# EAGLE library part MLX90316EGO-BCG-000-SP (library MLX90316EGO-BCG-000-SP)
Board Mount Motion & Position Sensors Triaxis Programmable Rotary Position Sensor feat. Ana-PWM Source: Datasheet <https://www.melexis.com/-/media/files/documents/datasheets/mlx90316-datasheet-melexis.pdf>
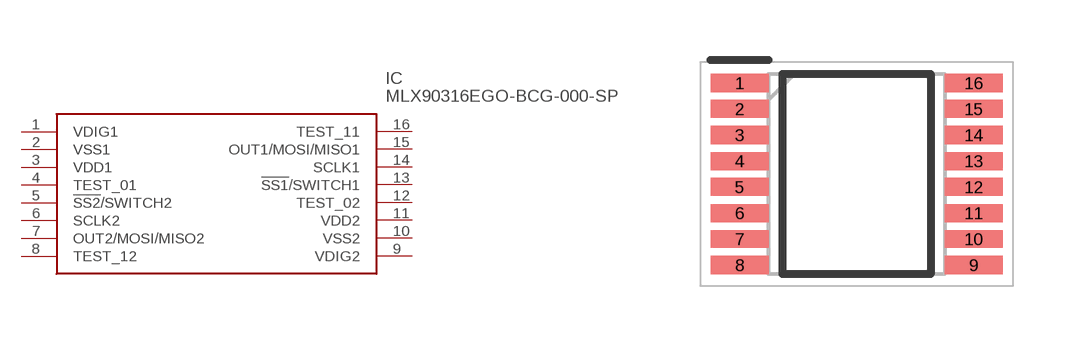
[diagram p0: symbol with the pads of SOP65P640X110-16N; footprint SOP65P640X110-16N]

Designator prefix IC

## MLX90316EGO-BCG-000-SP (Description: Board Mount Motion & Position Sensors Triaxis Programmable Rotary Position Sensor feat. Ana-PWM; Height: 1.1mm; Manufacturer_Name: Melexis; Manufacturer_Part_Number: MLX90316EGO-BCG-000-SP; Mouser_Part_Number: 482-90316EGOBCG000SP; Mouser_Price-Stock: https://www.mouser.co.uk/ProductDetail/Melexis/MLX90316EGO-BCG-000-SP?qs=KuGPmAKtFKWg%2F1YUwHrLHw%3D%3D)  [SOP65P640X110-16N]
1  VDIG1
2  VSS1
3  VDD1
4  TEST_01
5  !SS2!/SWITCH2
6  SCLK2
7  OUT2/MOSI/MISO2
8  TEST_12
9  VDIG2
10  VSS2
11  VDD2
12  TEST_02
13  !SS1!/SWITCH1
14  SCLK1
15  OUT1/MOSI/MISO1
16  TEST_11

## Footprint SOP65P640X110-16N (pad centres in mm)
MLX90316EGO-BCG-000-SP
smd 1.45 x 0.45: 1 -2.925,2.275; 2 -2.925,1.625; 3 -2.925,0.975; 4 -2.925,0.325; 5 -2.925,-0.325; 6 -2.925,-0.975; 7 -2.925,-1.625; 8 -2.925,-2.275; 9 2.925,-2.275; 10 2.925,-1.625; 11 2.925,-0.975; 12 2.925,-0.325; 13 2.925,0.325; 14 2.925,0.975; 15 2.925,1.625; 16 2.925,2.275